# EAGLE library part ADP3000 (library QuantumOptics)
ADP3000AR, T.I., DC-DC converter, buck/boost/invert, Vin=2-30V, <500mA, 400KHz. Use SOIC-8 only.
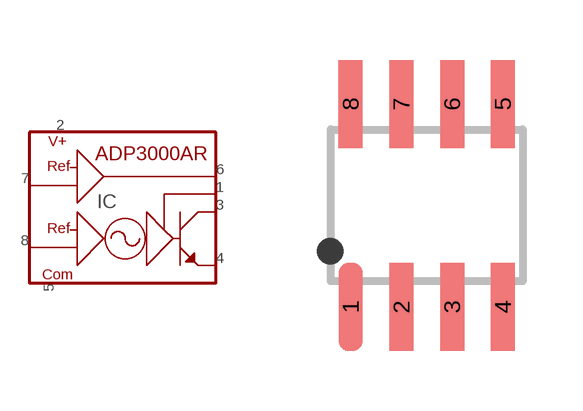
[diagram p34: symbol with the pads of SOIC-8; footprint SOIC-8]

Designator prefix IC

## ADP3000  [SOIC-8]
1  I-LIM  in
2  V-IN
3  SW-C
4  SW-E
5  COM
6  AO  out
7  SET  in
8  FB  in

## Footprint SOIC-8 (pad centres in mm)
SOIC-8 (a.k.a. SO-8), pads on 0.050" x 0.200" c-c spacing.
smd 0.6 x 2.2: 1 -1.27,-2.54; 2 0,-2.54; 3 1.27,-2.54; 4 2.54,-2.54; 5 2.54,2.54; 6 1.27,2.54; 7 0,2.54; 8 -1.27,2.54